# Altium footprint library 开源小遥控.PcbLib: 21 footprints (part 2 of 2)
Each footprint in its own frame and in the unit in brackets; x right, y up, seen from the top. Pads: shape width x height; smd on the part's side, far side on the other; paste and mask are expansions set on the pad; w line width, h text height; cw(c..) or ccw(c..) is an arc to the next point about the centre after c.
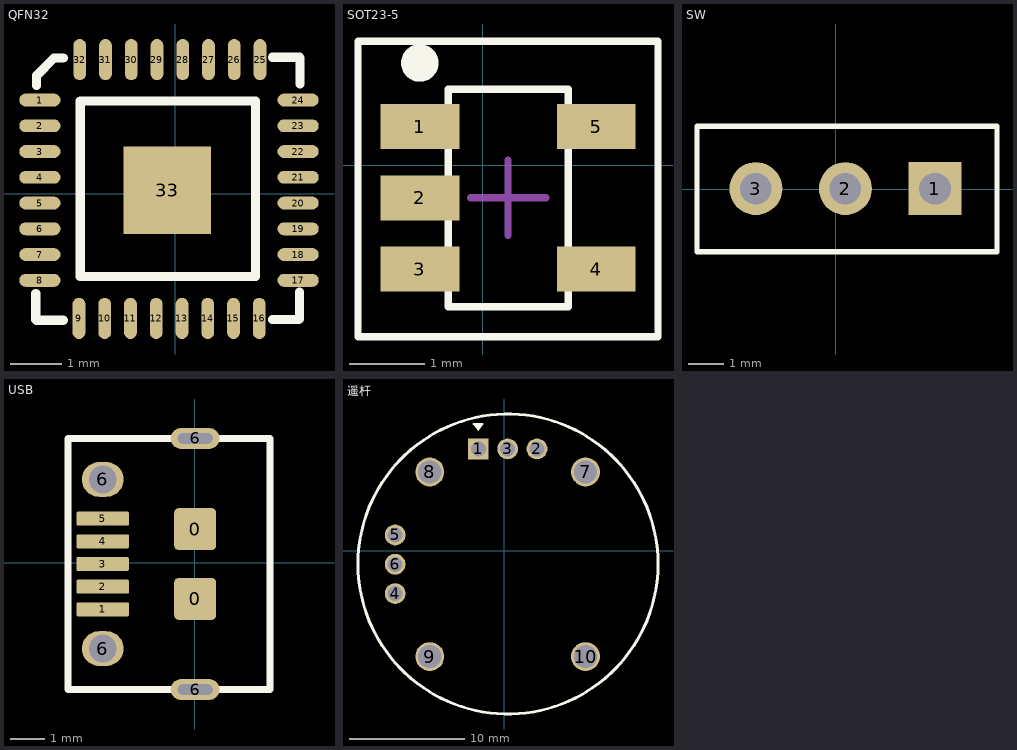
[diagram p1: the footprints below, top view; thin cyan lines are the x and y axes]

## QFN32 [mm]
pads (33):
  oval 0.8x0.25 smd: 1(-2.63,1.816) 2(-2.63,1.316) 3(-2.63,0.816) 4(-2.63,0.316) 5(-2.63,-0.184) 6(-2.63,-0.684) 7(-2.63,-1.184) 8(-2.63,-1.684) 17(2.384,-1.684) 18(2.384,-1.184) 19(2.384,-0.684) 20(2.384,-0.184) 21(2.384,0.316) 22(2.384,0.816) 23(2.384,1.316) 24(2.384,1.816)
  oval 0.25x0.8 smd: 9(-1.871,-2.423) 10(-1.371,-2.423) 11(-0.871,-2.423) 12(-0.371,-2.423) 13(0.129,-2.423) 14(0.629,-2.423) 15(1.129,-2.423) 16(1.629,-2.423) 25(1.644,2.601) 26(1.144,2.601) 27(0.644,2.601) 28(0.144,2.601) 29(-0.356,2.601) 30(-0.856,2.601) 31(-1.356,2.601)
  oval 0.25x0.8 smd paste+0: 32(-1.856,2.601)
  rect 1.7x1.7 smd: 33(-0.156,0.068)
Top Overlay:
  lines w0.178: -2.708,-1.938 -2.708,-2.446 -2.696,-2.458 -2.175,-2.458 ; -2.696,2.101 -2.696,2.291 -2.353,2.634 -2.175,2.634 ; 1.889,-2.446 2.397,-2.446 2.41,-2.433 2.41,-1.912 ; 1.889,2.647 2.41,2.647 2.422,2.634 2.422,2.126 ; -1.845,-1.608 1.559,-1.608 1.559,1.796 -1.845,1.796 -1.845,-1.608
3D body: height 0.93, standoff 0, extent -2.621,-2.422 2.381,2.58

## SOT23-5 [mm]
pads (5):
  rect 1.05x0.6 smd: 1(-0.84,0.513) 2(-0.84,-0.437) 3(-0.84,-1.387) 4(1.51,-1.387) 5(1.51,0.513)
Top Overlay:
  circle w0.25: c-0.84,1.363 r0.125
  lines w0.1: -1.665,-2.286 -1.665,1.651 2.335,1.651 2.335,-2.286 -1.665,-2.286 ; -0.465,-1.887 1.135,-1.887 1.135,1.013 -0.465,1.013 -0.465,-1.887
Mechanical 15:
  lines w0.1: -0.165,-0.437 0.835,-0.437 ; 0.335,-0.937 0.335,0.063
3D body: height 1.45, standoff 0.01, extent -1.25,-2.01 1.95,1.09

## SW [mm]
pads (3):
  rect 1.5x1.5 hole 0.9: 1(2.811,0.009)
  round 1.5 hole 0.9: 2(0.271,0.009) 3(-2.269,0.009)
Top Overlay:
  lines w0.15: -3.937,-1.778 4.572,-1.778 4.572,1.778 -3.937,1.778 -3.937,-1.778

## USB [mm]
pads (11):
  rrect20% 1.2x1.2 smd: 0(0.009,-1.031) 0(0.009,0.969)
  rrect20% 1.5x0.4 smd: 1(-2.641,-1.331) 2(-2.641,-0.681) 3(-2.641,-0.031) 4(-2.641,0.619) 5(-2.641,1.269)
  oval 1.2x1 hole 0.8: 6(-2.641,-2.456) 6(-2.641,2.394)
  oval 1.4x0.6 hole 0.3 slot 1 at 0 deg: 6(0.009,-3.631) 6(0.009,3.569)
Top Overlay:
  lines w0.2: -3.641,-3.631 -3.641,3.569 2.159,3.569 2.159,-3.631 -3.641,-3.631
3D body: height 2.8, standoff -0.95, extent -2.552,-4.128 3.048,3.874

## 遥杆 [mm]
pads (10):
  rect 1.8x1.8 hole 1.3: 1(-2.235,8.834)
  round 1.8 hole 1.3: 2(2.845,8.834) 3(0.305,8.834) 4(-9.445,-3.706) 5(-9.445,1.374) 6(-9.445,-1.166)
  round 2.5 hole 2: 7(7.055,6.834) 8(-6.445,6.834) 9(-6.445,-9.166) 10(7.055,-9.166)
Top Overlay:
  circle w0.254: c0.335,-1.143 r13
  lines w0.152: -1.999,10.981 -1.999,10.91 -2.253,10.656 -2.253,10.481 ; -2.253,10.481 -1.853,10.981 -2.653,10.981 -2.253,10.481 ; -2.478,10.856 -2.103,10.856 -2.278,10.681 -2.453,10.856 -2.478,10.856
3D body: height 29.36, standoff -3.65, extent -12.13,-13.6 12.87,11.4